# EAGLE library part MC33FS8530A1ES (library MC33FS8530A1ES)
Power Management Specialized - PMIC Safety power management IC, QFN56 Source: Datasheet <https://www.mouser.cn/datasheet/2/302/PB_FS84_FS85C-1947521.pdf>
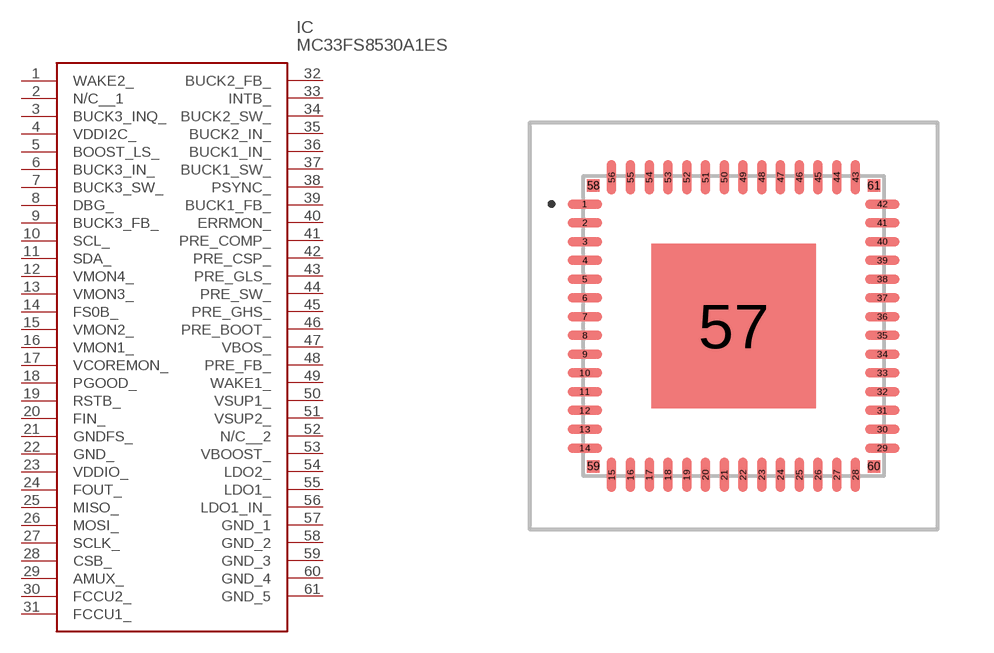
[diagram p0: symbol with the pads of MC33FS8530A1ES; footprint MC33FS8530A1ES]

Designator prefix IC

## MC33FS8530A1ES (Description: Power Management Specialized - PMIC Safety power management IC, QFN56; Height: 1mm; Manufacturer_Name: NXP; Manufacturer_Part_Number: MC33FS8530A1ES; Mouser_Part_Number: 771-MC33FS8530A1ES; Mouser_Price-Stock: https://www.mouser.co.uk/ProductDetail/NXP-Semiconductors/MC33FS8530A1ES?qs=9r4v7xj2Lnk7RA512yskfA%3D%3D)  [MC33FS8530A1ES]
1  WAKE2_
2  N/C__1
3  BUCK3_INQ_
4  VDDI2C_
5  BOOST_LS_
6  BUCK3_IN_
7  BUCK3_SW_
8  DBG_
9  BUCK3_FB_
10  SCL_
11  SDA_
12  VMON4_
13  VMON3_
14  FS0B_
15  VMON2_
16  VMON1_
17  VCOREMON_
18  PGOOD_
19  RSTB_
20  FIN_
21  GNDFS_
22  GND_
23  VDDIO_
24  FOUT_
25  MISO_
26  MOSI_
27  SCLK_
28  CSB_
29  AMUX_
30  FCCU2_
31  FCCU1_
32  BUCK2_FB_
33  INTB_
34  BUCK2_SW_
35  BUCK2_IN_
36  BUCK1_IN_
37  BUCK1_SW_
38  PSYNC_
39  BUCK1_FB_
40  ERRMON_
41  PRE_COMP_
42  PRE_CSP_
43  PRE_GLS_
44  PRE_SW_
45  PRE_GHS_
46  PRE_BOOT_
47  VBOS_
48  PRE_FB_
49  WAKE1_
50  VSUP1_
51  VSUP2_
52  N/C__2
53  VBOOST_
54  LDO2_
55  LDO1_
56  LDO1_IN_
57  GND_1
58  GND_2
59  GND_3
60  GND_4
61  GND_5

## Footprint MC33FS8530A1ES (pad centres in mm)
SOT684-23_2022
smd 0.925 x 0.25: 1 -3.963,3.25; 2 -3.963,2.75; 3 -3.963,2.25; 4 -3.963,1.75; 5 -3.963,1.25; 6 -3.963,0.75; 7 -3.963,0.25; 8 -3.963,-0.25; 9 -3.963,-0.75; 10 -3.963,-1.25; 11 -3.963,-1.75; 12 -3.963,-2.25; 13 -3.963,-2.75; 14 -3.963,-3.25; 29 3.963,-3.25; 30 3.963,-2.75; 31 3.963,-2.25; 32 3.963,-1.75; 33 3.963,-1.25; 34 3.963,-0.75; 35 3.963,-0.25; 36 3.963,0.25; 37 3.963,0.75; 38 3.963,1.25; 39 3.963,1.75; 40 3.963,2.25; 41 3.963,2.75; 42 3.963,3.25
smd 0.25 x 0.925: 15 -3.25,-3.963; 16 -2.75,-3.963; 17 -2.25,-3.963; 18 -1.75,-3.963; 19 -1.25,-3.963; 20 -0.75,-3.963; 21 -0.25,-3.963; 22 0.25,-3.963; 23 0.75,-3.963; 24 1.25,-3.963; 25 1.75,-3.963; 26 2.25,-3.963; 27 2.75,-3.963; 28 3.25,-3.963; 43 3.25,3.963; 44 2.75,3.963; 45 2.25,3.963; 46 1.75,3.963; 47 1.25,3.963; 48 0.75,3.963; 49 0.25,3.963; 50 -0.25,3.963; 51 -0.75,3.963; 52 -1.25,3.963; 53 -1.75,3.963; 54 -2.25,3.963; 55 -2.75,3.963; 56 -3.25,3.963
smd 4.39 x 4.39: 57 0,0
smd 0.33 x 0.33: 58 -3.738,3.738; 59 -3.738,-3.738; 60 3.738,-3.738; 61 3.738,3.738